# Altium integrated library Microchip dsPIC33E.IntLib: 190 symbols (part 15 of 15)
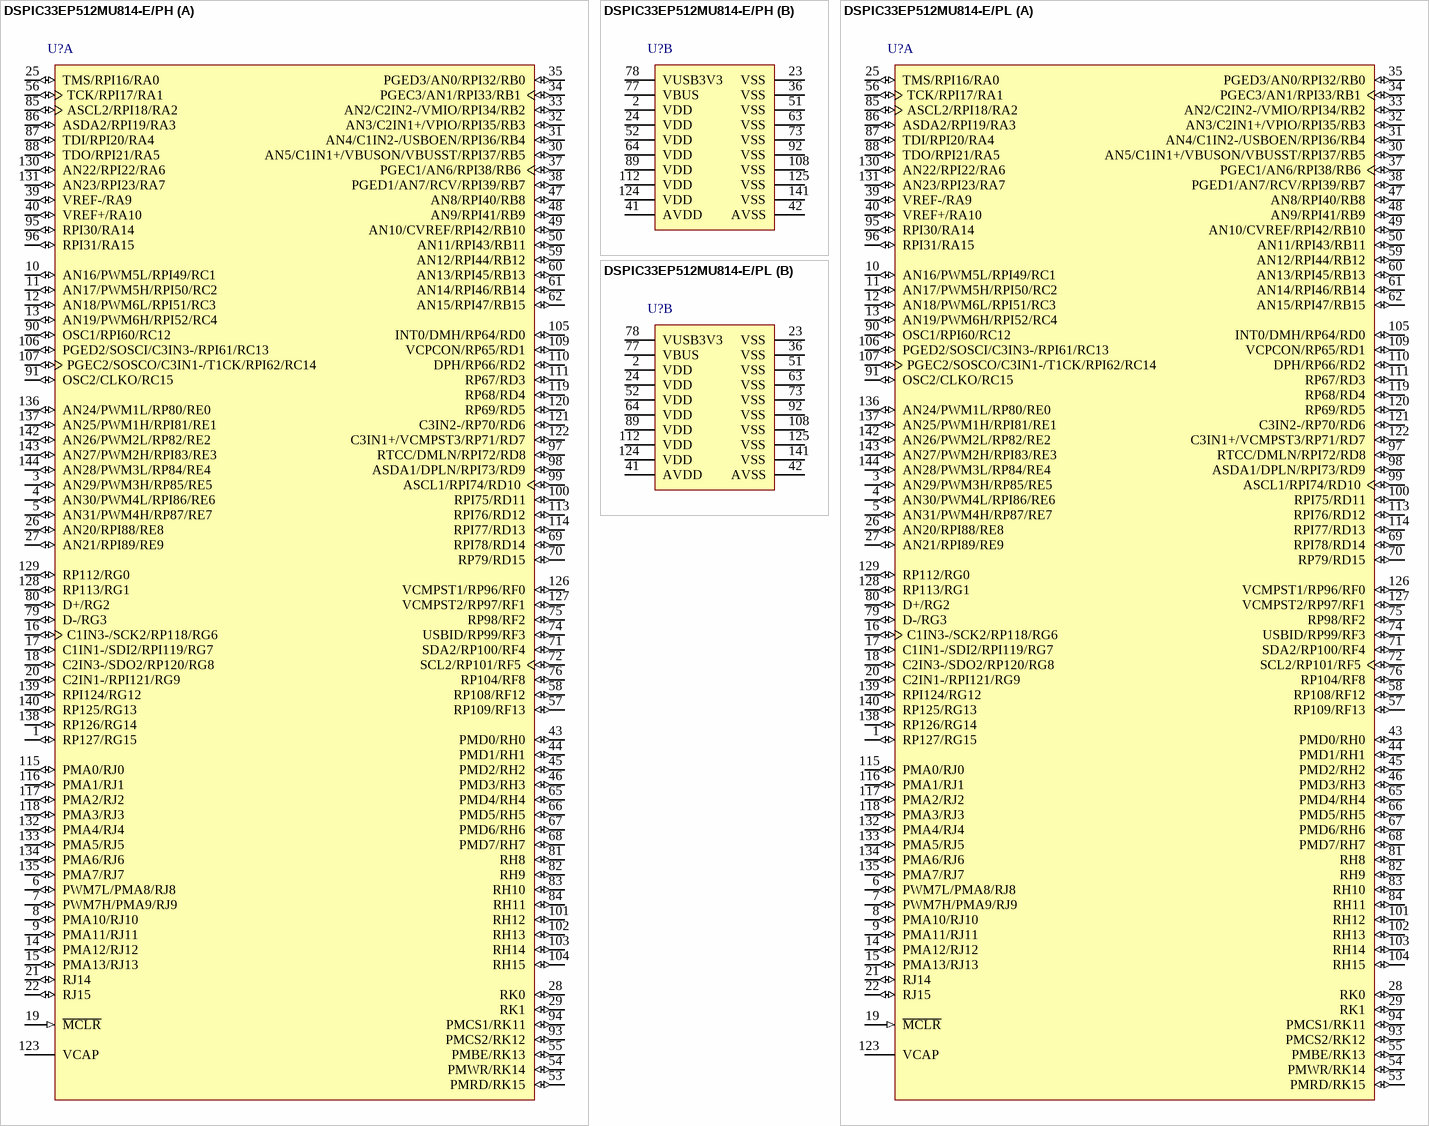
[diagram p76: symbols DSPIC33EP512MU814-E/PH to DSPIC33EP512MU814-E/PL]

## DSPIC33EP512MU814-E/PL
designator U?
16-Bit Microcontroller and Digital Signal Controller with High-Speed PWM, USB and Advanced Analog, 70 MIPS, 122 I/O, PMP, -40 to 125 degC, 144-pin LQFP (PL144), Tray; Manufacturer: Microchip; PartNumber: DSPIC33EP512MU814-E/PL; DatasheetVersion: Rev. G; PackageVersion: C04-044B; PackageReference: LQFP-PL144; PackageDescription: 144-Lead Plastic Low Profile Quad Flatpack, 20 x 20 mm Body, 0.5 mm Pitch; Supplier 1: Digi-Key; Supplier Part Number 1: DSPIC33EP512MU814-E/PL-ND; Supplier 2: Newark; Supplier Part Number 2: 65R5410; Supplier 3: Mouser; Supplier Part Number 3: 579-PIC33512MU814L; Mounting Technology: Surface Mount; ComponentLink1Description: Manufacturer URL; ComponentLink1URL: http://www.microchip.com; ComponentLink2Description: Datasheet; ComponentLink2URL: http://ww1.microchip.com/downloads/en/DeviceDoc/70616g.pdf; ComponentLink3Description: Package Specification; ComponentLink3URL: http://www.microchip.com/stellent/groups/techpub_sg/documents/packagingspec/en012702.pdf; ComponentLink4Description: Product URL; ComponentLink4URL: http://www.microchip.com/dsPIC33EP512MU814
footprint MCHP-LQFP-PL144_N (QFP, 144-Leads, Body 20x20mm, Pitch 0.5mm, IPC Medium Density)
footprint MCHP-LQFP-PL144_L (QFP, 144-Leads, Body 20x20mm, Pitch 0.5mm, IPC High Density)
footprint MCHP-LQFP-PL144_M (QFP, 144-Leads, Body 20x20mm, Pitch 0.5mm, IPC Low Density)
part A pins: 1 RP127/RG15 (io), 3 AN29/PWM3H/RP85/RE5 (io), 4 AN30/PWM4L/RPI86/RE6 (io), 5 AN31/PWM4H/RP87/RE7 (io), 6 PWM7L/PMA8/RJ8 (io), 7 PWM7H/PMA9/RJ9 (io), 8 PMA10/RJ10 (io), 9 PMA11/RJ11 (io), 10 AN16/PWM5L/RPI49/RC1 (io), 11 AN17/PWM5H/RPI50/RC2 (io), 12 AN18/PWM6L/RPI51/RC3 (io), 13 AN19/PWM6H/RPI52/RC4 (io), 14 PMA12/RJ12 (io), 15 PMA13/RJ13 (io), 16 C1IN3-/SCK2/RP118/RG6 (io), 17 C1IN1-/SDI2/RPI119/RG7 (io), 18 C2IN3-/SDO2/RP120/RG8 (io), 19 ~{MCLR} (in) "Master Clear (Reset) input. This pin is an active-low Reset to the device.", 20 C2IN1-/RPI121/RG9 (io), 21 RJ14 (io) "PORTJ is a bidirectional I/O port.", 22 RJ15 (io) "PORTJ is a bidirectional I/O port.", 25 TMS/RPI16/RA0 (io), 26 AN20/RPI88/RE8 (io), 27 AN21/RPI89/RE9 (io), 28 RK0 (io) "PORTK is a bidirectional I/O port.", 29 RK1 (io) "PORTK is a bidirectional I/O port.", 30 AN5/C1IN1+/VBUSON/VBUSST/RPI37/RB5 (io), 31 AN4/C1IN2-/USBOEN/RPI36/RB4 (io), 32 AN3/C2IN1+/VPIO/RPI35/RB3 (io), 33 AN2/C2IN2-/VMIO/RPI34/RB2 (io), 34 PGEC3/AN1/RPI33/RB1 (io), 35 PGED3/AN0/RPI32/RB0 (io), 37 PGEC1/AN6/RPI38/RB6 (io), 38 PGED1/AN7/RCV/RPI39/RB7 (io), 39 VREF-/RA9 (io), 40 VREF+/RA10 (io), 43 PMD0/RH0 (io), 44 PMD1/RH1 (io), 45 PMD2/RH2 (io), 46 PMD3/RH3 (io), 47 AN8/RPI40/RB8 (io), 48 AN9/RPI41/RB9 (io), 49 AN10/CVREF/RPI42/RB10 (io), 50 AN11/RPI43/RB11 (io), 53 PMRD/RK15 (io), 54 PMWR/RK14 (io), 55 PMBE/RK13 (io), 56 TCK/RPI17/RA1 (io), 57 RP109/RF13 (io), 58 RP108/RF12 (io), 59 AN12/RPI44/RB12 (io), 60 AN13/RPI45/RB13 (io), 61 AN14/RPI46/RB14 (io), 62 AN15/RPI47/RB15 (io), 65 PMD4/RH4 (io), 66 PMD5/RH5 (io), 67 PMD6/RH6 (io), 68 PMD7/RH7 (io), 69 RPI78/RD14 (io), 70 RP79/RD15 (io), 71 SDA2/RP100/RF4 (io), 72 SCL2/RP101/RF5 (io), 74 USBID/RP99/RF3 (io), 75 RP98/RF2 (io), 76 RP104/RF8 (io), 79 D-/RG3 (io), 80 D+/RG2 (io), 81 RH8 (io) "PORTH is a bidirectional I/O port.", 82 RH9 (io) "PORTH is a bidirectional I/O port.", 83 RH10 (io) "PORTH is a bidirectional I/O port.", 84 RH11 (io) "PORTH is a bidirectional I/O port.", 85 ASCL2/RPI18/RA2 (io), 86 ASDA2/RPI19/RA3 (io), 87 TDI/RPI20/RA4 (io), 88 TDO/RPI21/RA5 (io), 90 OSC1/RPI60/RC12 (io), 91 OSC2/CLKO/RC15 (io), 93 PMCS2/RK12 (io), 94 PMCS1/RK11 (io), 95 RPI30/RA14 (io), 96 RPI31/RA15 (io), 97 RTCC/DMLN/RPI72/RD8 (io), 98 ASDA1/DPLN/RPI73/RD9 (io), 99 ASCL1/RPI74/RD10 (io), 100 RPI75/RD11 (io), 101 RH12 (io) "PORTH is a bidirectional I/O port.", 102 RH13 (io) "PORTH is a bidirectional I/O port.", 103 RH14 (io) "PORTH is a bidirectional I/O port.", 104 RH15 (io) "PORTH is a bidirectional I/O port.", 105 INT0/DMH/RP64/RD0 (io), 106 PGED2/SOSCI/C3IN3-/RPI61/RC13 (io), 107 PGEC2/SOSCO/C3IN1-/T1CK/RPI62/RC14 (io), 109 VCPCON/RP65/RD1 (io), 110 DPH/RP66/RD2 (io), 111 RP67/RD3 (io), 113 RPI76/RD12 (io), 114 RPI77/RD13 (io), 115 PMA0/RJ0 (io), 116 PMA1/RJ1 (io), 117 PMA2/RJ2 (io), 118 PMA3/RJ3 (io), 119 RP68/RD4 (io), 120 RP69/RD5 (io), 121 C3IN2-/RP70/RD6 (io), 122 C3IN1+/VCMPST3/RP71/RD7 (io), 123 VCAP "CPU logic filter capacitor connection.", 126 VCMPST1/RP96/RF0 (io), 127 VCMPST2/RP97/RF1 (io), 128 RP113/RG1 (io), 129 RP112/RG0 (io), 130 AN22/RPI22/RA6 (io), 131 AN23/RPI23/RA7 (io), 132 PMA4/RJ4 (io), 133 PMA5/RJ5 (io), 134 PMA6/RJ6 (io), 135 PMA7/RJ7 (io), 136 AN24/PWM1L/RP80/RE0 (io), 137 AN25/PWM1H/RPI81/RE1 (io), 138 RP126/RG14 (io), 139 RPI124/RG12 (io), 140 RP125/RG13 (io), 142 AN26/PWM2L/RP82/RE2 (io), 143 AN27/PWM2H/RPI83/RE3 (io), 144 AN28/PWM3L/RP84/RE4 (io)
part B pins: 2 VDD (power) "Positive supply for peripheral logic and I/O pins.", 23 VSS (power) "Ground reference for logic and I/O pins.", 24 VDD (power) "Positive supply for peripheral logic and I/O pins.", 36 VSS "Ground reference for logic and I/O pins.", 41 AVDD (power) "Positive supply for analog modules. This pin must be connected at all times.", 42 AVSS "Ground reference for analog modules.", 51 VSS "Ground reference for logic and I/O pins.", 52 VDD (power) "Positive supply for peripheral logic and I/O pins.", 63 VSS "Ground reference for logic and I/O pins.", 64 VDD (power) "Positive supply for peripheral logic and I/O pins.", 73 VSS "Ground reference for logic and I/O pins.", 77 VBUS (power) "USB bus power monitor.", 78 VUSB3V3 (power) "USB internal transceiver supply. If the USB module is not being used, this pin must be connected to VDD.", 89 VDD (power) "Positive supply for peripheral logic and I/O pins.", 92 VSS (power) "Ground reference for logic and I/O pins.", 108 VSS "Ground reference for logic and I/O pins.", 112 VDD (power) "Positive supply for peripheral logic and I/O pins.", 124 VDD (power) "Positive supply for peripheral logic and I/O pins.", 125 VSS "Ground reference for logic and I/O pins.", 141 VSS "Ground reference for logic and I/O pins."

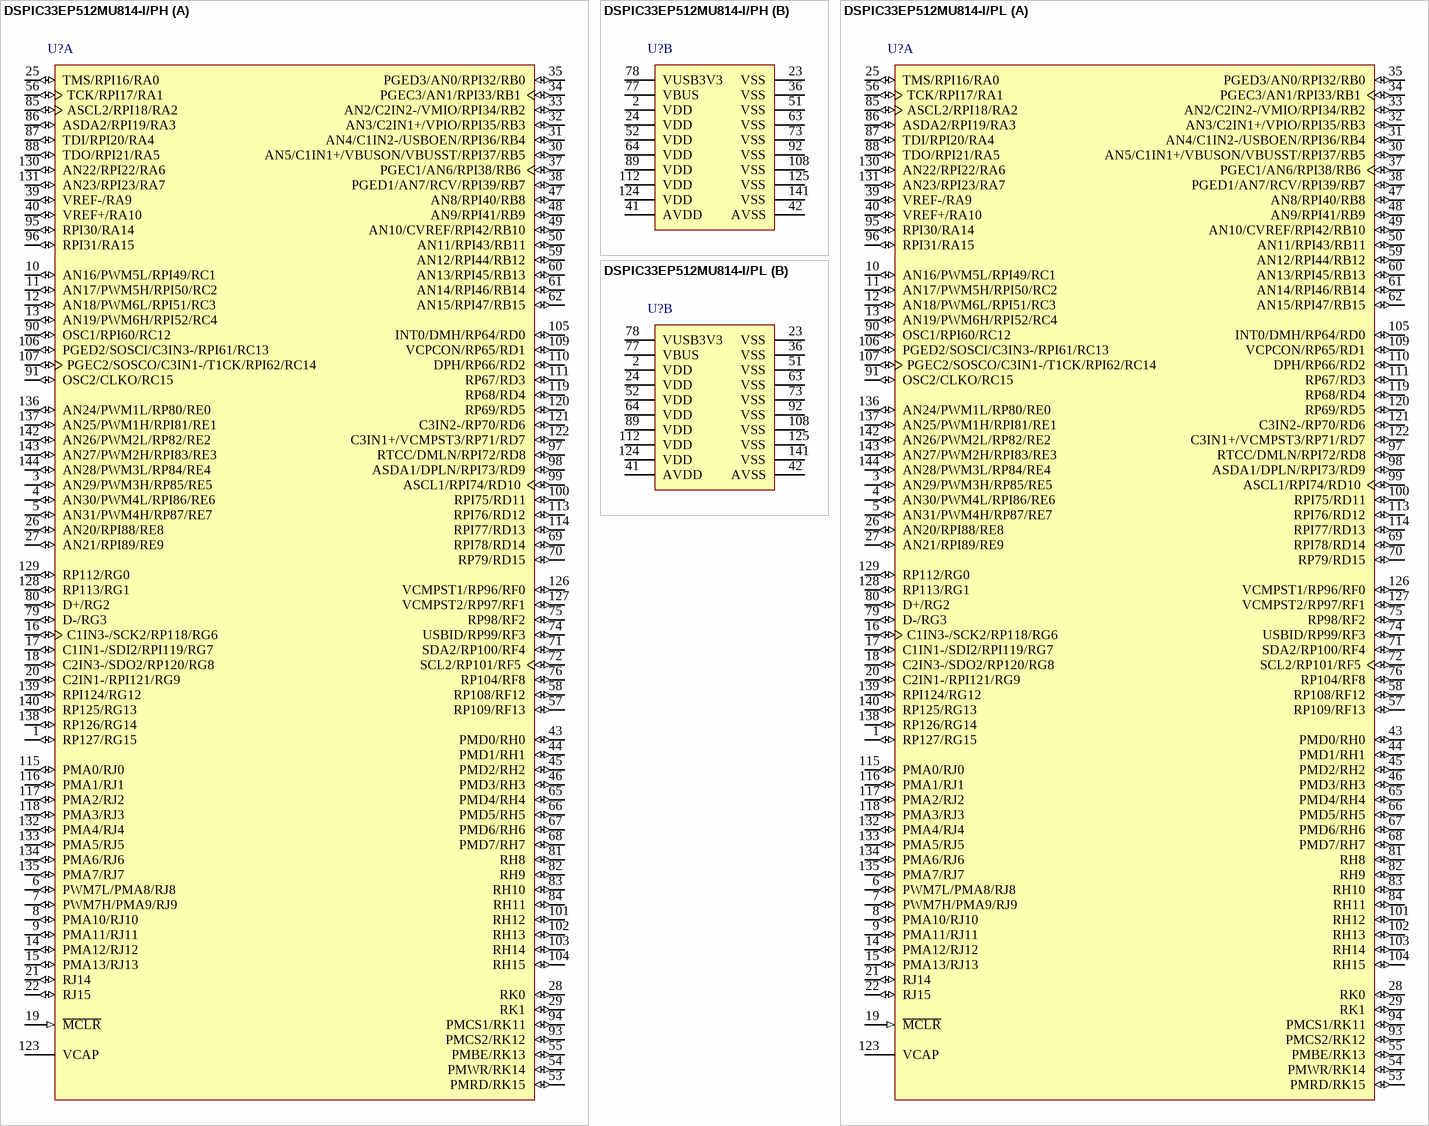
[diagram p62: symbols DSPIC33EP512MU814-I/PH to DSPIC33EP512MU814-I/PL]

## DSPIC33EP512MU814-I/PH
designator U?
16-Bit Microcontroller and Digital Signal Controller with High-Speed PWM, USB and Advanced Analog, 70 MIPS, 122 I/O, PMP, -40 to 85 degC, 144-pin TQFP (PH144), Tray; Manufacturer: Microchip; PartNumber: DSPIC33EP512MU814-I/PH; DatasheetVersion: Rev. G; PackageVersion: C04-155B; PackageReference: TQFP-PH144; PackageDescription: 144-Lead Plastic Thin Quad Flatpack, 16 x 16 mm Body, 0.4 mm Pitch; Supplier 1: Digi-Key; Supplier Part Number 1: DSPIC33EP512MU814-I/PH-ND; Supplier 2: Farnell; Supplier Part Number 2: 2079388; Supplier 3: Newark; Supplier Part Number 3: 65R5411; Supplier 4: Mouser; Supplier Part Number 4: 579-PIC33512MU814IPH; Mounting Technology: Surface Mount; ComponentLink1Description: Manufacturer URL; ComponentLink1URL: http://www.microchip.com; ComponentLink2Description: Datasheet; ComponentLink2URL: http://ww1.microchip.com/downloads/en/DeviceDoc/70616g.pdf; ComponentLink3Description: Package Specification; ComponentLink3URL: http://www.microchip.com/stellent/groups/techpub_sg/documents/packagingspec/en012702.pdf; ComponentLink4Description: Product URL; ComponentLink4URL: http://www.microchip.com/dsPIC33EP512MU814
footprint MCHP-TQFP-PH144_N (QFP, 144-Leads, Body 16x16mm, Pitch 0.4mm, IPC Medium Density)
footprint MCHP-TQFP-PH144_L (QFP, 144-Leads, Body 16x16mm, Pitch 0.4mm, IPC High Density)
footprint MCHP-TQFP-PH144_M (QFP, 144-Leads, Body 16x16mm, Pitch 0.4mm, IPC Low Density)
part A pins: 1 RP127/RG15 (io), 3 AN29/PWM3H/RP85/RE5 (io), 4 AN30/PWM4L/RPI86/RE6 (io), 5 AN31/PWM4H/RP87/RE7 (io), 6 PWM7L/PMA8/RJ8 (io), 7 PWM7H/PMA9/RJ9 (io), 8 PMA10/RJ10 (io), 9 PMA11/RJ11 (io), 10 AN16/PWM5L/RPI49/RC1 (io), 11 AN17/PWM5H/RPI50/RC2 (io), 12 AN18/PWM6L/RPI51/RC3 (io), 13 AN19/PWM6H/RPI52/RC4 (io), 14 PMA12/RJ12 (io), 15 PMA13/RJ13 (io), 16 C1IN3-/SCK2/RP118/RG6 (io), 17 C1IN1-/SDI2/RPI119/RG7 (io), 18 C2IN3-/SDO2/RP120/RG8 (io), 19 ~{MCLR} (in) "Master Clear (Reset) input. This pin is an active-low Reset to the device.", 20 C2IN1-/RPI121/RG9 (io), 21 RJ14 (io) "PORTJ is a bidirectional I/O port.", 22 RJ15 (io) "PORTJ is a bidirectional I/O port.", 25 TMS/RPI16/RA0 (io), 26 AN20/RPI88/RE8 (io), 27 AN21/RPI89/RE9 (io), 28 RK0 (io) "PORTK is a bidirectional I/O port.", 29 RK1 (io) "PORTK is a bidirectional I/O port.", 30 AN5/C1IN1+/VBUSON/VBUSST/RPI37/RB5 (io), 31 AN4/C1IN2-/USBOEN/RPI36/RB4 (io), 32 AN3/C2IN1+/VPIO/RPI35/RB3 (io), 33 AN2/C2IN2-/VMIO/RPI34/RB2 (io), 34 PGEC3/AN1/RPI33/RB1 (io), 35 PGED3/AN0/RPI32/RB0 (io), 37 PGEC1/AN6/RPI38/RB6 (io), 38 PGED1/AN7/RCV/RPI39/RB7 (io), 39 VREF-/RA9 (io), 40 VREF+/RA10 (io), 43 PMD0/RH0 (io), 44 PMD1/RH1 (io), 45 PMD2/RH2 (io), 46 PMD3/RH3 (io), 47 AN8/RPI40/RB8 (io), 48 AN9/RPI41/RB9 (io), 49 AN10/CVREF/RPI42/RB10 (io), 50 AN11/RPI43/RB11 (io), 53 PMRD/RK15 (io), 54 PMWR/RK14 (io), 55 PMBE/RK13 (io), 56 TCK/RPI17/RA1 (io), 57 RP109/RF13 (io), 58 RP108/RF12 (io), 59 AN12/RPI44/RB12 (io), 60 AN13/RPI45/RB13 (io), 61 AN14/RPI46/RB14 (io), 62 AN15/RPI47/RB15 (io), 65 PMD4/RH4 (io), 66 PMD5/RH5 (io), 67 PMD6/RH6 (io), 68 PMD7/RH7 (io), 69 RPI78/RD14 (io), 70 RP79/RD15 (io), 71 SDA2/RP100/RF4 (io), 72 SCL2/RP101/RF5 (io), 74 USBID/RP99/RF3 (io), 75 RP98/RF2 (io), 76 RP104/RF8 (io), 79 D-/RG3 (io), 80 D+/RG2 (io), 81 RH8 (io) "PORTH is a bidirectional I/O port.", 82 RH9 (io) "PORTH is a bidirectional I/O port.", 83 RH10 (io) "PORTH is a bidirectional I/O port.", 84 RH11 (io) "PORTH is a bidirectional I/O port.", 85 ASCL2/RPI18/RA2 (io), 86 ASDA2/RPI19/RA3 (io), 87 TDI/RPI20/RA4 (io), 88 TDO/RPI21/RA5 (io), 90 OSC1/RPI60/RC12 (io), 91 OSC2/CLKO/RC15 (io), 93 PMCS2/RK12 (io), 94 PMCS1/RK11 (io), 95 RPI30/RA14 (io), 96 RPI31/RA15 (io), 97 RTCC/DMLN/RPI72/RD8 (io), 98 ASDA1/DPLN/RPI73/RD9 (io), 99 ASCL1/RPI74/RD10 (io), 100 RPI75/RD11 (io), 101 RH12 (io) "PORTH is a bidirectional I/O port.", 102 RH13 (io) "PORTH is a bidirectional I/O port.", 103 RH14 (io) "PORTH is a bidirectional I/O port.", 104 RH15 (io) "PORTH is a bidirectional I/O port.", 105 INT0/DMH/RP64/RD0 (io), 106 PGED2/SOSCI/C3IN3-/RPI61/RC13 (io), 107 PGEC2/SOSCO/C3IN1-/T1CK/RPI62/RC14 (io), 109 VCPCON/RP65/RD1 (io), 110 DPH/RP66/RD2 (io), 111 RP67/RD3 (io), 113 RPI76/RD12 (io), 114 RPI77/RD13 (io), 115 PMA0/RJ0 (io), 116 PMA1/RJ1 (io), 117 PMA2/RJ2 (io), 118 PMA3/RJ3 (io), 119 RP68/RD4 (io), 120 RP69/RD5 (io), 121 C3IN2-/RP70/RD6 (io), 122 C3IN1+/VCMPST3/RP71/RD7 (io), 123 VCAP "CPU logic filter capacitor connection.", 126 VCMPST1/RP96/RF0 (io), 127 VCMPST2/RP97/RF1 (io), 128 RP113/RG1 (io), 129 RP112/RG0 (io), 130 AN22/RPI22/RA6 (io), 131 AN23/RPI23/RA7 (io), 132 PMA4/RJ4 (io), 133 PMA5/RJ5 (io), 134 PMA6/RJ6 (io), 135 PMA7/RJ7 (io), 136 AN24/PWM1L/RP80/RE0 (io), 137 AN25/PWM1H/RPI81/RE1 (io), 138 RP126/RG14 (io), 139 RPI124/RG12 (io), 140 RP125/RG13 (io), 142 AN26/PWM2L/RP82/RE2 (io), 143 AN27/PWM2H/RPI83/RE3 (io), 144 AN28/PWM3L/RP84/RE4 (io)
part B pins: 2 VDD (power) "Positive supply for peripheral logic and I/O pins.", 23 VSS (power) "Ground reference for logic and I/O pins.", 24 VDD (power) "Positive supply for peripheral logic and I/O pins.", 36 VSS "Ground reference for logic and I/O pins.", 41 AVDD (power) "Positive supply for analog modules. This pin must be connected at all times.", 42 AVSS "Ground reference for analog modules.", 51 VSS "Ground reference for logic and I/O pins.", 52 VDD (power) "Positive supply for peripheral logic and I/O pins.", 63 VSS "Ground reference for logic and I/O pins.", 64 VDD (power) "Positive supply for peripheral logic and I/O pins.", 73 VSS "Ground reference for logic and I/O pins.", 77 VBUS (power) "USB bus power monitor.", 78 VUSB3V3 (power) "USB internal transceiver supply. If the USB module is not being used, this pin must be connected to VDD.", 89 VDD (power) "Positive supply for peripheral logic and I/O pins.", 92 VSS (power) "Ground reference for logic and I/O pins.", 108 VSS "Ground reference for logic and I/O pins.", 112 VDD (power) "Positive supply for peripheral logic and I/O pins.", 124 VDD (power) "Positive supply for peripheral logic and I/O pins.", 125 VSS "Ground reference for logic and I/O pins.", 141 VSS "Ground reference for logic and I/O pins."

## DSPIC33EP512MU814-I/PL
designator U?
16-Bit Microcontroller and Digital Signal Controller with High-Speed PWM, USB and Advanced Analog, 70 MIPS, 122 I/O, PMP, -40 to 85 degC, 144-pin LQFP (PL144), Tray; Manufacturer: Microchip; PartNumber: DSPIC33EP512MU814-I/PL; DatasheetVersion: Rev. G; PackageVersion: C04-044B; PackageReference: LQFP-PL144; PackageDescription: 144-Lead Plastic Low Profile Quad Flatpack, 20 x 20 mm Body, 0.5 mm Pitch; Supplier 1: Digi-Key; Supplier Part Number 1: DSPIC33EP512MU814-I/PL-ND; Supplier 2: Farnell; Supplier Part Number 2: 2062985; Supplier 3: Newark; Supplier Part Number 3: 65R5412; Supplier 4: Mouser; Supplier Part Number 4: 579-PIC33512MU814IPL; Mounting Technology: Surface Mount; ComponentLink1Description: Manufacturer URL; ComponentLink1URL: http://www.microchip.com; ComponentLink2Description: Datasheet; ComponentLink2URL: http://ww1.microchip.com/downloads/en/DeviceDoc/70616g.pdf; ComponentLink3Description: Package Specification; ComponentLink3URL: http://www.microchip.com/stellent/groups/techpub_sg/documents/packagingspec/en012702.pdf; ComponentLink4Description: Product URL; ComponentLink4URL: http://www.microchip.com/dsPIC33EP512MU814
footprint MCHP-LQFP-PL144_N (QFP, 144-Leads, Body 20x20mm, Pitch 0.5mm, IPC Medium Density)
footprint MCHP-LQFP-PL144_L (QFP, 144-Leads, Body 20x20mm, Pitch 0.5mm, IPC High Density)
footprint MCHP-LQFP-PL144_M (QFP, 144-Leads, Body 20x20mm, Pitch 0.5mm, IPC Low Density)
part A pins: 1 RP127/RG15 (io), 3 AN29/PWM3H/RP85/RE5 (io), 4 AN30/PWM4L/RPI86/RE6 (io), 5 AN31/PWM4H/RP87/RE7 (io), 6 PWM7L/PMA8/RJ8 (io), 7 PWM7H/PMA9/RJ9 (io), 8 PMA10/RJ10 (io), 9 PMA11/RJ11 (io), 10 AN16/PWM5L/RPI49/RC1 (io), 11 AN17/PWM5H/RPI50/RC2 (io), 12 AN18/PWM6L/RPI51/RC3 (io), 13 AN19/PWM6H/RPI52/RC4 (io), 14 PMA12/RJ12 (io), 15 PMA13/RJ13 (io), 16 C1IN3-/SCK2/RP118/RG6 (io), 17 C1IN1-/SDI2/RPI119/RG7 (io), 18 C2IN3-/SDO2/RP120/RG8 (io), 19 ~{MCLR} (in) "Master Clear (Reset) input. This pin is an active-low Reset to the device.", 20 C2IN1-/RPI121/RG9 (io), 21 RJ14 (io) "PORTJ is a bidirectional I/O port.", 22 RJ15 (io) "PORTJ is a bidirectional I/O port.", 25 TMS/RPI16/RA0 (io), 26 AN20/RPI88/RE8 (io), 27 AN21/RPI89/RE9 (io), 28 RK0 (io) "PORTK is a bidirectional I/O port.", 29 RK1 (io) "PORTK is a bidirectional I/O port.", 30 AN5/C1IN1+/VBUSON/VBUSST/RPI37/RB5 (io), 31 AN4/C1IN2-/USBOEN/RPI36/RB4 (io), 32 AN3/C2IN1+/VPIO/RPI35/RB3 (io), 33 AN2/C2IN2-/VMIO/RPI34/RB2 (io), 34 PGEC3/AN1/RPI33/RB1 (io), 35 PGED3/AN0/RPI32/RB0 (io), 37 PGEC1/AN6/RPI38/RB6 (io), 38 PGED1/AN7/RCV/RPI39/RB7 (io), 39 VREF-/RA9 (io), 40 VREF+/RA10 (io), 43 PMD0/RH0 (io), 44 PMD1/RH1 (io), 45 PMD2/RH2 (io), 46 PMD3/RH3 (io), 47 AN8/RPI40/RB8 (io), 48 AN9/RPI41/RB9 (io), 49 AN10/CVREF/RPI42/RB10 (io), 50 AN11/RPI43/RB11 (io), 53 PMRD/RK15 (io), 54 PMWR/RK14 (io), 55 PMBE/RK13 (io), 56 TCK/RPI17/RA1 (io), 57 RP109/RF13 (io), 58 RP108/RF12 (io), 59 AN12/RPI44/RB12 (io), 60 AN13/RPI45/RB13 (io), 61 AN14/RPI46/RB14 (io), 62 AN15/RPI47/RB15 (io), 65 PMD4/RH4 (io), 66 PMD5/RH5 (io), 67 PMD6/RH6 (io), 68 PMD7/RH7 (io), 69 RPI78/RD14 (io), 70 RP79/RD15 (io), 71 SDA2/RP100/RF4 (io), 72 SCL2/RP101/RF5 (io), 74 USBID/RP99/RF3 (io), 75 RP98/RF2 (io), 76 RP104/RF8 (io), 79 D-/RG3 (io), 80 D+/RG2 (io), 81 RH8 (io) "PORTH is a bidirectional I/O port.", 82 RH9 (io) "PORTH is a bidirectional I/O port.", 83 RH10 (io) "PORTH is a bidirectional I/O port.", 84 RH11 (io) "PORTH is a bidirectional I/O port.", 85 ASCL2/RPI18/RA2 (io), 86 ASDA2/RPI19/RA3 (io), 87 TDI/RPI20/RA4 (io), 88 TDO/RPI21/RA5 (io), 90 OSC1/RPI60/RC12 (io), 91 OSC2/CLKO/RC15 (io), 93 PMCS2/RK12 (io), 94 PMCS1/RK11 (io), 95 RPI30/RA14 (io), 96 RPI31/RA15 (io), 97 RTCC/DMLN/RPI72/RD8 (io), 98 ASDA1/DPLN/RPI73/RD9 (io), 99 ASCL1/RPI74/RD10 (io), 100 RPI75/RD11 (io), 101 RH12 (io) "PORTH is a bidirectional I/O port.", 102 RH13 (io) "PORTH is a bidirectional I/O port.", 103 RH14 (io) "PORTH is a bidirectional I/O port.", 104 RH15 (io) "PORTH is a bidirectional I/O port.", 105 INT0/DMH/RP64/RD0 (io), 106 PGED2/SOSCI/C3IN3-/RPI61/RC13 (io), 107 PGEC2/SOSCO/C3IN1-/T1CK/RPI62/RC14 (io), 109 VCPCON/RP65/RD1 (io), 110 DPH/RP66/RD2 (io), 111 RP67/RD3 (io), 113 RPI76/RD12 (io), 114 RPI77/RD13 (io), 115 PMA0/RJ0 (io), 116 PMA1/RJ1 (io), 117 PMA2/RJ2 (io), 118 PMA3/RJ3 (io), 119 RP68/RD4 (io), 120 RP69/RD5 (io), 121 C3IN2-/RP70/RD6 (io), 122 C3IN1+/VCMPST3/RP71/RD7 (io), 123 VCAP "CPU logic filter capacitor connection.", 126 VCMPST1/RP96/RF0 (io), 127 VCMPST2/RP97/RF1 (io), 128 RP113/RG1 (io), 129 RP112/RG0 (io), 130 AN22/RPI22/RA6 (io), 131 AN23/RPI23/RA7 (io), 132 PMA4/RJ4 (io), 133 PMA5/RJ5 (io), 134 PMA6/RJ6 (io), 135 PMA7/RJ7 (io), 136 AN24/PWM1L/RP80/RE0 (io), 137 AN25/PWM1H/RPI81/RE1 (io), 138 RP126/RG14 (io), 139 RPI124/RG12 (io), 140 RP125/RG13 (io), 142 AN26/PWM2L/RP82/RE2 (io), 143 AN27/PWM2H/RPI83/RE3 (io), 144 AN28/PWM3L/RP84/RE4 (io)
part B pins: 2 VDD (power) "Positive supply for peripheral logic and I/O pins.", 23 VSS (power) "Ground reference for logic and I/O pins.", 24 VDD (power) "Positive supply for peripheral logic and I/O pins.", 36 VSS "Ground reference for logic and I/O pins.", 41 AVDD (power) "Positive supply for analog modules. This pin must be connected at all times.", 42 AVSS "Ground reference for analog modules.", 51 VSS "Ground reference for logic and I/O pins.", 52 VDD (power) "Positive supply for peripheral logic and I/O pins.", 63 VSS "Ground reference for logic and I/O pins.", 64 VDD (power) "Positive supply for peripheral logic and I/O pins.", 73 VSS "Ground reference for logic and I/O pins.", 77 VBUS (power) "USB bus power monitor.", 78 VUSB3V3 (power) "USB internal transceiver supply. If the USB module is not being used, this pin must be connected to VDD.", 89 VDD (power) "Positive supply for peripheral logic and I/O pins.", 92 VSS (power) "Ground reference for logic and I/O pins.", 108 VSS "Ground reference for logic and I/O pins.", 112 VDD (power) "Positive supply for peripheral logic and I/O pins.", 124 VDD (power) "Positive supply for peripheral logic and I/O pins.", 125 VSS "Ground reference for logic and I/O pins.", 141 VSS "Ground reference for logic and I/O pins."